# Altium schematic symbol library 0ZRM0250FF1A.SchLib: 1 symbol
Pins are listed as number, name and electrical type; pins without a type are passive.

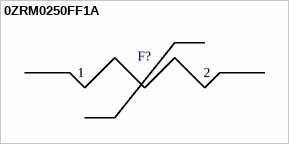
[diagram p0: symbol 0ZRM0250FF1A]

## 0ZRM0250FF1A
designator F?  (value not drawn)
PartNumber: 0ZRM0125FF1A; Manufacturer: Bel Fuse Inc.; PartDescription: PTC RESET FUSE 120V 1.25A RADIAL; Supplier 1: Digi-Key; Supplier Part Number 1: 507-1406-ND; Package Type: 2 TH
footprint 0ZRM250FF1A (PTC Reset Fuse,120V, 1.25A)
pins: 1, 2